# Altium footprint library AutonomousVehicle_Lib.PcbLib: 18 footprints (part 2 of 2)
Each footprint in its own frame and in the unit in brackets; x right, y up, seen from the top. Pads: shape width x height; smd on the part's side, far side on the other; paste and mask are expansions set on the pad; w line width, h text height; cw(c..) or ccw(c..) is an arc to the next point about the centre after c.
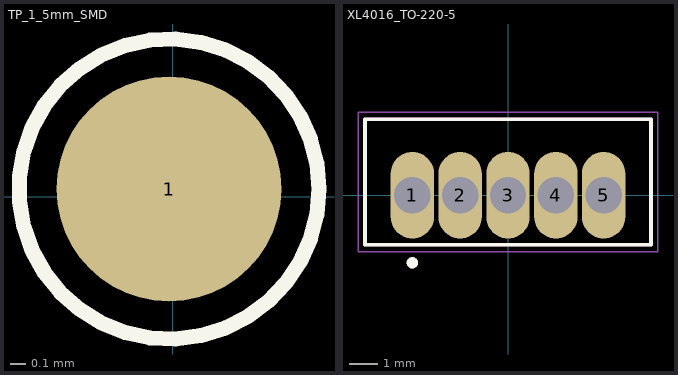
[diagram p1: the footprints below, top view; thin cyan lines are the x and y axes]

## TP_1_5mm_SMD [mil]
pads (1):
  round 59.06 smd: 1(-1,2)
Top Overlay:
  circle w3.94: c-1,2 r39.37

## XL4016_TO-220-5 [mm]
pads (5):
  oval 1.54x3.08 hole 1.29: 1(-3.4,0) 2(-1.7,0) 3(0,0) 4(1.7,0) 5(3.4,0)
Top Overlay:
  circle w0.2: c-3.4,-2.4 r0.1
  lines w0.127: -5.08,-1.753 -5.08,2.692 5.08,2.692 5.08,-1.753 -5.08,-1.753
Mechanical 13:
  circle w0.2: c-3.4,-2.4 r0.1
  lines w0.127: -5.08,-1.753 -5.08,2.692 5.08,2.692 5.08,-1.753 -5.08,-1.753
Mechanical 15:
  lines w0.05: -5.33,-2.003 -5.33,2.942 5.33,2.942 5.33,-2.003 -5.33,-2.003
3D body "step_temp.STEP": height 16.51, standoff -14.99, extent -5.08,-1.48 5.08,2.711